# EAGLE library part TEENSY3_6 (library ct-bot)
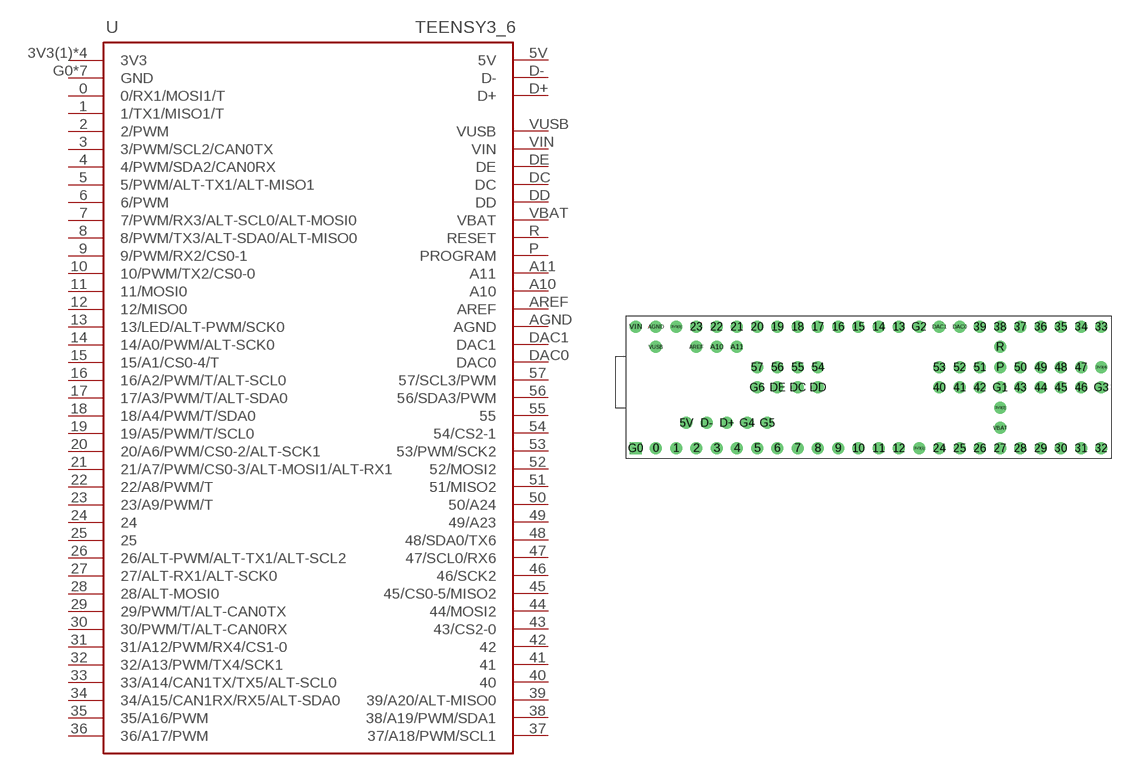
[diagram p0: symbol with the pads of T36; footprint T36]

Designator prefix -

## TEENSY3_6  [T36]
0  0/RX1/MOSI1/T
1  1/TX1/MISO1/T
2  2/PWM
3  3/PWM/SCL2/CAN0TX
3V3(1)  3V3
3V3(2)  3V3
3V3(3)  3V3
3V3(4)  3V3
4  4/PWM/SDA2/CAN0RX
5  5/PWM/ALT-TX1/ALT-MISO1
5V  5V
6  6/PWM
7  7/PWM/RX3/ALT-SCL0/ALT-MOSI0
8  8/PWM/TX3/ALT-SDA0/ALT-MISO0
9  9/PWM/RX2/CS0-1
10  10/PWM/TX2/CS0-0
11  11/MOSI0
12  12/MISO0
13  13/LED/ALT-PWM/SCK0
14  14/A0/PWM/ALT-SCK0
15  15/A1/CS0-4/T
16  16/A2/PWM/T/ALT-SCL0
17  17/A3/PWM/T/ALT-SDA0
18  18/A4/PWM/T/SDA0
19  19/A5/PWM/T/SCL0
20  20/A6/PWM/CS0-2/ALT-SCK1
21  21/A7/PWM/CS0-3/ALT-MOSI1/ALT-RX1
22  22/A8/PWM/T
23  23/A9/PWM/T
24  24
25  25
26  26/ALT-PWM/ALT-TX1/ALT-SCL2
27  27/ALT-RX1/ALT-SCK0
28  28/ALT-MOSI0
29  29/PWM/T/ALT-CAN0TX
30  30/PWM/T/ALT-CAN0RX
31  31/A12/PWM/RX4/CS1-0
32  32/A13/PWM/TX4/SCK1
33  33/A14/CAN1TX/TX5/ALT-SCL0
34  34/A15/CAN1RX/RX5/ALT-SDA0
35  35/A16/PWM
36  36/A17/PWM
37  37/A18/PWM/SCL1
38  38/A19/PWM/SDA1
39  39/A20/ALT-MISO0
40  40
41  41
42  42
43  43/CS2-0
44  44/MOSI2
45  45/CS0-5/MISO2
46  46/SCK2
47  47/SCL0/RX6
48  48/SDA0/TX6
49  49/A23
50  50/A24
51  51/MISO2
52  52/MOSI2
53  53/PWM/SCK2
54  54/CS2-1
55  55
56  56/SDA3/PWM
57  57/SCL3/PWM
A10  A10
A11  A11
AGND  AGND
AREF  AREF
D+  D+
D-  D-
DAC0  DAC0
DAC1  DAC1
DC  DC
DD  DD
DE  DE
G0  GND
G1  GND
G2  GND
G3  GND
G4  GND
G5  GND
G6  GND
P  PROGRAM
R  RESET
VBAT  VBAT
VIN  VIN
VUSB  VUSB

## Footprint T36 (pad centres in mm)
drill 1: 0 -26.67,-7.62; 1 -24.13,-7.62; 2 -21.59,-7.62; 3 -19.05,-7.62; 3V3(1) 6.35,-7.62; 3V3(2) 16.51,-2.54; 3V3(3) -24.13,7.62; 3V3(4) 29.21,2.54; 4 -16.51,-7.62; 5 -13.97,-7.62; 5V -22.86,-4.445; 6 -11.43,-7.62; 7 -8.89,-7.62; 8 -6.35,-7.62; 9 -3.81,-7.62; 10 -1.27,-7.62; 11 1.27,-7.62; 12 3.81,-7.62; 13 3.81,7.62; 14 1.27,7.62; 15 -1.27,7.62; 16 -3.81,7.62; 17 -6.35,7.62; 18 -8.89,7.62; 19 -11.43,7.62; 20 -13.97,7.62; 21 -16.51,7.62; 22 -19.05,7.62; 23 -21.59,7.62; 24 8.89,-7.62; 25 11.43,-7.62; 26 13.97,-7.62; 27 16.51,-7.62; 28 19.05,-7.62; 29 21.59,-7.62; 30 24.13,-7.62; 31 26.67,-7.62; 32 29.21,-7.62; 33 29.21,7.62; 34 26.67,7.62; 35 24.13,7.62; 36 21.59,7.62; 37 19.05,7.62; 38 16.51,7.62; 39 13.97,7.62; 40 8.89,0; 41 11.43,0; 42 13.97,0; 43 19.05,0; 44 21.59,0; 45 24.13,0; 46 26.67,0; 47 26.67,2.54; 48 24.13,2.54; 49 21.59,2.54; 50 19.05,2.54; 51 13.97,2.54; 52 11.43,2.54; 53 8.89,2.54; 54 -6.35,2.54; 55 -8.89,2.54; 56 -11.43,2.54; 57 -13.97,2.54; A10 -19.05,5.08; A11 -16.51,5.08; AGND -26.67,7.62; AREF -21.59,5.08; D+ -17.78,-4.445; D- -20.32,-4.445; DAC0 11.43,7.62; DAC1 8.89,7.62; DC -8.89,0; DD -6.35,0; DE -11.43,0; G1 16.51,0; G2 6.35,7.62; G3 29.21,0; G4 -15.24,-4.445; G5 -12.7,-4.445; G6 -13.97,0; P 16.51,2.54; R 16.51,5.08; VBAT 16.51,-5.08; VIN -29.21,7.62; VUSB -26.67,5.08
drill 1 square: G0 -29.21,-7.62